# EAGLE library part USB-AB (library v12)
This is a USB AB connector that is compatible with USB OTG. i.e. this connector can serve as a host or device
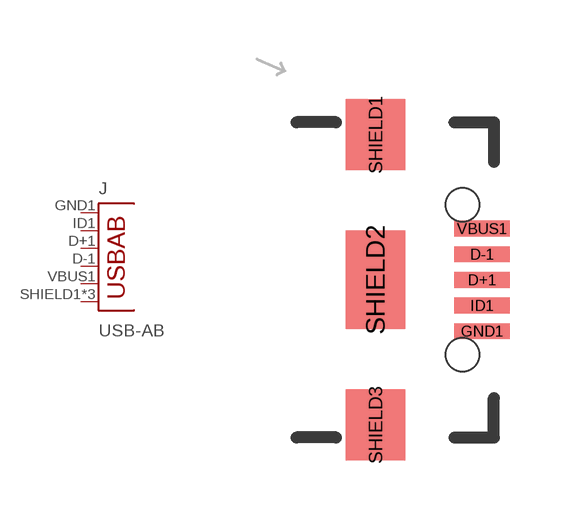
[diagram p3: symbol with the pads of USB-AB-MICRO-SMD_V03; footprint USB-AB-MICRO-SMD_V03]

Designator prefix J

## USB-ABCONN-11794 (PROD_ID: CONN-11794)  [USB-AB-MICRO-SMD_V03]
D+1  D+
D-1  D-
GND1  GND
ID1  USBID
SHIELD1  SHIELD
SHIELD2  SHIELD
SHIELD3  SHIELD
VBUS1  VBUS

## Footprint USB-AB-MICRO-SMD_V03 (pad centres in mm)
smd 1.4 x 0.4: D+1 2.7,0; D-1 2.7,0.65; GND1 2.7,-1.3; ID1 2.7,-0.65; VBUS1 2.7,1.3
smd 1.5 x 1.8: SHIELD1 0,3.68; SHIELD3 0,-3.68
smd 1.5 x 2.5: SHIELD2 0,0
hole 0.85 at 2.2,1.9
hole 0.85 at 2.2,-1.9